# Altium integrated library ON Semi Digital Transistors (BRTs).IntLib: 470 symbols (part 8 of 11)
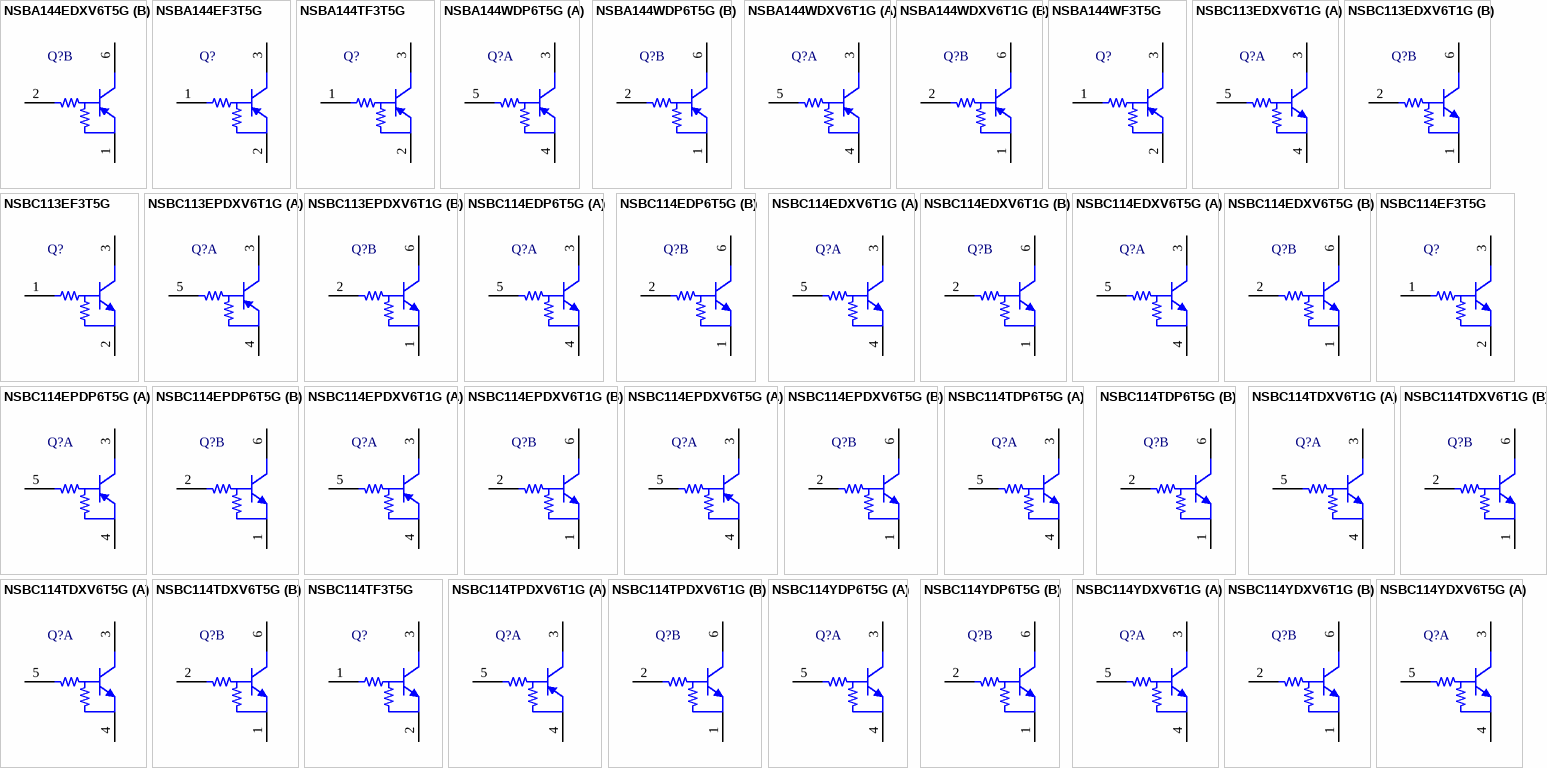
[diagram p23: symbols NSBA144EDXV6T5G to NSBC114YDXV6T5G]

## NSBC114TDXV6T5G
designator Q?
Dual NPN Bias Resistor Transistors, R1=10 kOhm, R2=infinity kOhm, NPN Transistor, 6-Pin SOT-563, Pb-Free, Tape and Reel; Manufacturer: On Semiconductor; PartNumber: NSBC114TDXV6T5G; hFE Min: 160; IC Continuous (A): 0.1; V(BR)CEO Min (V): 50; DatasheetVersion: Rev. 0; PackageVersion: Rev. F, 04/2005; PackageReference: SOT-563-6-463A-01; PackageDescription: 6-Pin Small Outline Transistor, Body 1.6 x 1.2 mm, Pitch 0.5 mm; Supplier 1: Digi-Key; Supplier Part Number 1: NSBC114TDXV6T5GOS-ND; Supplier 2: Mouser; Supplier Part Number 2: 863-NSBC114TDXV6T5G; Packing: Tape and Reel; Polarity: Dual NPN; RoHS: TRUE; Mounting Technology: Surface Mount; ComponentLink1Description: Manufacturer URL; ComponentLink1URL: http://www.onsemi.com/; ComponentLink2Description: Datasheet; ComponentLink2URL: http://www.onsemi.cn/pub_link/Collateral/DTC114TD-D.PDF; ComponentLink3Description: Package Specification; ComponentLink3URL: http://www.onsemi.cn/pub_link/Collateral/463A-01.PDF
footprint ONSC-SOT-563-6-463A-01_V (SOT23, 6-Leads, Body 1.6x1.2mm, Pitch 0.5mm)
part A pins: 3 C, 4 E, 5 B
part B pins: 1 E, 2 B, 6 C

## NSBC114TF3T5G
designator Q?
Digital Transistor (BRT), R1=10 kOhm, R2=infinity kOhm, NPN Transistor, 3-Pin SOT-1123, Pb-Free, Tape and Reel; Manufacturer: On Semiconductor; PartNumber: NSBC114TF3T5G; hFE Min: 160; IC Continuous (A): 0.1; V(BR)CEO Min (V): 50; DatasheetVersion: Rev. 1; PackageVersion: Rev. C, 11/2011; PackageReference: SOT-1123-3-524AA; PackageDescription: 3-Pin Small Outline Transistor, Body 0.8 x 0.6 mm, Pitch 0.375 mm; Supplier 1: Digi-Key; Supplier Part Number 1: NSBC114TF3T5G-ND; Supplier 2: Mouser; Supplier Part Number 2: 863-NSBC114TF3T5G; Packing: Tape and Reel; Polarity: NPN; RoHS: TRUE; Mounting Technology: Surface Mount; ComponentLink1Description: Manufacturer URL; ComponentLink1URL: http://www.onsemi.com/; ComponentLink2Description: Datasheet; ComponentLink2URL: http://www.onsemi.cn/pub_link/Collateral/DTC114T-D.PDF; ComponentLink3Description: Package Specification; ComponentLink3URL: http://www.onsemi.cn/pub_link/Collateral/524AA.PDF
footprint ONSC-SOT-1123-3-524AA_V (SOT223, 3-Leads, Body 0.8x0.6mm, Pitch 0.38mm)
pins: 1 B, 2 E, 3 C

## NSBC114TPDXV6T1G
designator Q?
Complementary Bias Resistor Transistors, R1=10 kOhm, R2=infinity kOhm, NPN and PNP Transistors, 6-Pin SOT-563, Pb-Free, Tape and Reel; Manufacturer: On Semiconductor; PartNumber: NSBC114TPDXV6T1G; hFE Min: 160; IC Continuous (A): 0.1; V(BR)CEO Min (V): 50; DatasheetVersion: Rev. 0; PackageVersion: Rev. F, 04/2005; PackageReference: SOT-563-6-463A-01; PackageDescription: 6-Pin Small Outline Transistor, Body 1.6 x 1.2 mm, Pitch 0.5 mm; Supplier 1: Mouser; Supplier Part Number 1: 863-NSBC114TPDXV6T1G; Packing: Tape and Reel; Polarity: Complementary; RoHS: TRUE; Mounting Technology: Surface Mount; ComponentLink1Description: Manufacturer URL; ComponentLink1URL: http://www.onsemi.com/; ComponentLink2Description: Datasheet; ComponentLink2URL: http://www.onsemi.cn/pub_link/Collateral/DTC114TP-D.PDF; ComponentLink3Description: Package Specification; ComponentLink3URL: http://www.onsemi.cn/pub_link/Collateral/463A-01.PDF
footprint ONSC-SOT-563-6-463A-01_V (SOT23, 6-Leads, Body 1.6x1.2mm, Pitch 0.5mm)
part A pins: 3 C, 4 E, 5 B
part B pins: 1 E, 2 B, 6 C

## NSBC114YDP6T5G
designator Q?
Dual NPN Bias Resistor Transistors, R1=10 kOhm, R2=47 kOhm, NPN Transistor, 6-Pin SOT-963, Pb-Free, Tape and Reel; Manufacturer: On Semiconductor; PartNumber: NSBC114YDP6T5G; hFE Min: 80; IC Continuous (A): 0.1; R1/R2 Typ: 0.21; V(BR)CEO Min (V): 50; DatasheetVersion: Rev. 0; PackageVersion: Rev. E, 02/2010; PackageReference: SOT-963-6-527AD-01; PackageDescription: 6-Pin Small Outline Transistor, Body 1 x 0.8 mm, Pitch 0.35 mm; Supplier 1: Digi-Key; Supplier Part Number 1: NSBC114YDP6T5G-ND; Supplier 2: Newark; Supplier Part Number 2: 46P8319; Supplier 3: Mouser; Supplier Part Number 3: 863-NSBC114YDP6T5G; Packing: Tape and Reel; Polarity: Dual NPN; RoHS: TRUE; Mounting Technology: Surface Mount; ComponentLink1Description: Manufacturer URL; ComponentLink1URL: http://www.onsemi.com/; ComponentLink2Description: Datasheet; ComponentLink2URL: http://www.onsemi.cn/pub_link/Collateral/DTC114YD-D.PDF; ComponentLink3Description: Package Specification; ComponentLink3URL: http://www.onsemi.cn/pub_link/Collateral/527AD.PDF
footprint ONSC-SOT-963-6-527AD-01_V (SOT23, 6-Leads, Body 1x0.8mm, Pitch 0.35mm)
part A pins: 3 C, 4 E, 5 B
part B pins: 1 E, 2 B, 6 C

## NSBC114YDXV6T1G
designator Q?
Dual NPN Bias Resistor Transistors, R1=10 kOhm, R2=47 kOhm, NPN Transistor, 6-Pin SOT-563, Pb-Free, Tape and Reel; Manufacturer: On Semiconductor; PartNumber: NSBC114YDXV6T1G; hFE Min: 80; IC Continuous (A): 0.1; R1/R2 Typ: 0.21; V(BR)CEO Min (V): 50; DatasheetVersion: Rev. 0; PackageVersion: Rev. F, 04/2005; PackageReference: SOT-563-6-463A-01; PackageDescription: 6-Pin Small Outline Transistor, Body 1.6 x 1.2 mm, Pitch 0.5 mm; Supplier 1: Digi-Key; Supplier Part Number 1: NSBC114YDXV6T1GOSTR-ND; Supplier 2: Digi-Key; Supplier Part Number 2: NSBC114YDXV6T1GOSCT-ND; Supplier 3: Digi-Key; Supplier Part Number 3: NSBC114YDXV6T1GOSDKR-ND; Supplier 4: Mouser; Supplier Part Number 4: 863-NSBC114YDXV6T1G; Packing: Tape and Reel; Polarity: Dual NPN; RoHS: TRUE; Mounting Technology: Surface Mount; ComponentLink1Description: Manufacturer URL; ComponentLink1URL: http://www.onsemi.com/; ComponentLink2Description: Datasheet; ComponentLink2URL: http://www.onsemi.cn/pub_link/Collateral/DTC114YD-D.PDF; ComponentLink3Description: Package Specification; ComponentLink3URL: http://www.onsemi.cn/pub_link/Collateral/463A-01.PDF
footprint ONSC-SOT-563-6-463A-01_V (SOT23, 6-Leads, Body 1.6x1.2mm, Pitch 0.5mm)
part A pins: 3 C, 4 E, 5 B
part B pins: 1 E, 2 B, 6 C

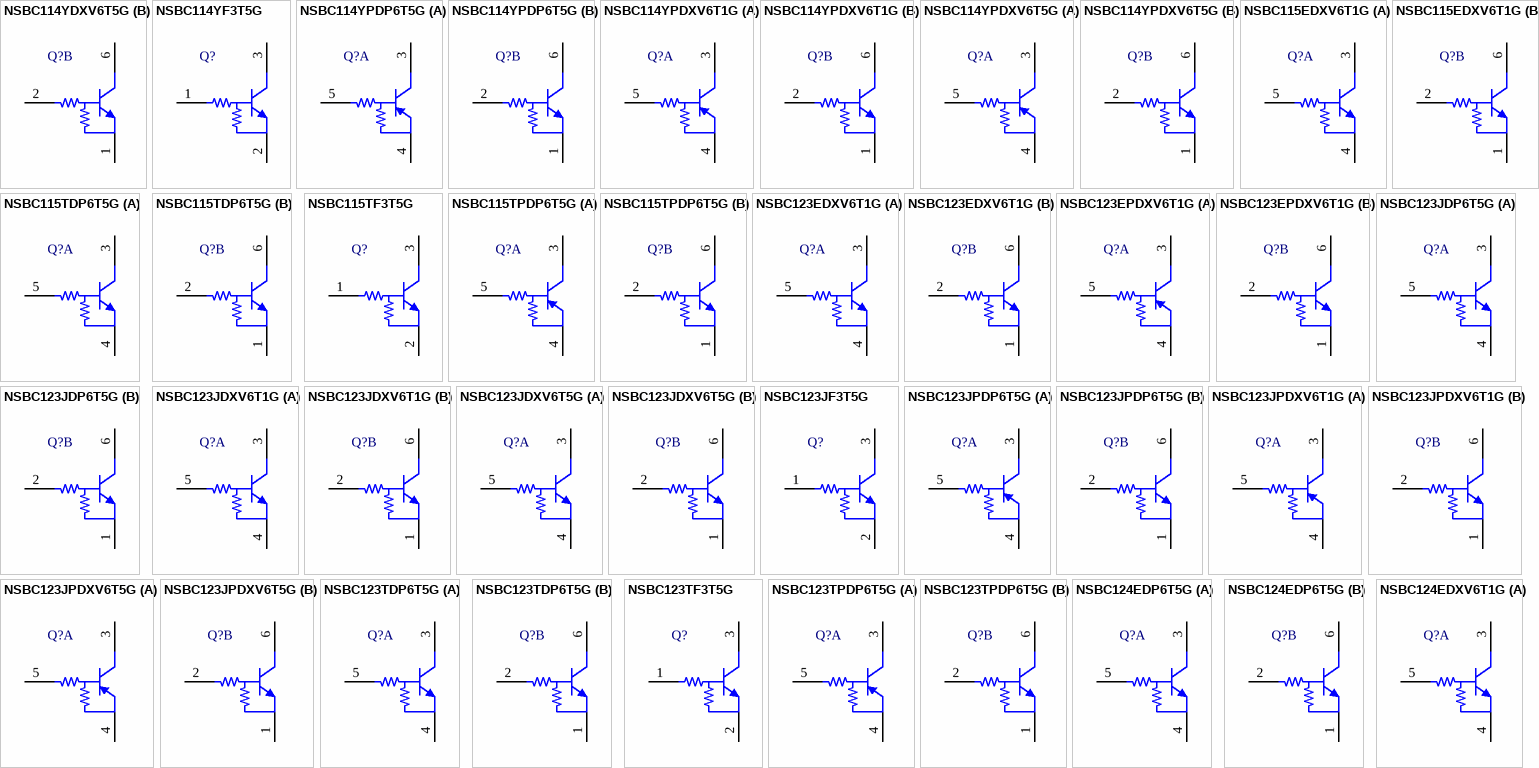
[diagram p10: symbols NSBC114YDXV6T5G to NSBC124EDXV6T1G]

## NSBC114YDXV6T5G
designator Q?
Dual NPN Bias Resistor Transistors, R1=10 kOhm, R2=47 kOhm, NPN Transistor, 6-Pin SOT-563, Pb-Free, Tape and Reel; Manufacturer: On Semiconductor; PartNumber: NSBC114YDXV6T5G; hFE Min: 80; IC Continuous (A): 0.1; R1/R2 Typ: 0.21; V(BR)CEO Min (V): 50; DatasheetVersion: Rev. 0; PackageVersion: Rev. F, 04/2005; PackageReference: SOT-563-6-463A-01; PackageDescription: 6-Pin Small Outline Transistor, Body 1.6 x 1.2 mm, Pitch 0.5 mm; Supplier 1: Digi-Key; Supplier Part Number 1: NSBC114YDXV6T5G-ND; Supplier 2: Mouser; Supplier Part Number 2: 863-NSBC114YDXV6T5G; Packing: Tape and Reel; Polarity: Dual NPN; RoHS: TRUE; Mounting Technology: Surface Mount; ComponentLink1Description: Manufacturer URL; ComponentLink1URL: http://www.onsemi.com/; ComponentLink2Description: Datasheet; ComponentLink2URL: http://www.onsemi.cn/pub_link/Collateral/DTC114YD-D.PDF; ComponentLink3Description: Package Specification; ComponentLink3URL: http://www.onsemi.cn/pub_link/Collateral/463A-01.PDF
footprint ONSC-SOT-563-6-463A-01_V (SOT23, 6-Leads, Body 1.6x1.2mm, Pitch 0.5mm)
part A pins: 3 C, 4 E, 5 B
part B pins: 1 E, 2 B, 6 C

## NSBC114YF3T5G
designator Q?
Digital Transistor (BRT), R1=10 kOhm, R2=47 kOhm, NPN Transistor, 3-Pin SOT-1123, Pb-Free, Tape and Reel; Manufacturer: On Semiconductor; PartNumber: NSBC114YF3T5G; hFE Min: 80; IC Continuous (A): 0.1; R1/R2 Typ: 0.21; V(BR)CEO Min (V): 50; DatasheetVersion: Rev. 3; PackageVersion: Rev. C, 11/2011; PackageReference: SOT-1123-3-524AA; PackageDescription: 3-Pin Small Outline Transistor, Body 0.8 x 0.6 mm, Pitch 0.375 mm; Supplier 1: Digi-Key; Supplier Part Number 1: NSBC114YF3T5G-ND; Supplier 2: Mouser; Supplier Part Number 2: 863-NSBC114YF3T5G; Packing: Tape and Reel; Polarity: NPN; RoHS: TRUE; Mounting Technology: Surface Mount; ComponentLink1Description: Manufacturer URL; ComponentLink1URL: http://www.onsemi.com/; ComponentLink2Description: Datasheet; ComponentLink2URL: http://www.onsemi.cn/pub_link/Collateral/DTC114Y-D.PDF; ComponentLink3Description: Package Specification; ComponentLink3URL: http://www.onsemi.cn/pub_link/Collateral/524AA.PDF
footprint ONSC-SOT-1123-3-524AA_V (SOT223, 3-Leads, Body 0.8x0.6mm, Pitch 0.38mm)
pins: 1 B, 2 E, 3 C

## NSBC114YPDP6T5G
designator Q?
Complementary Bias Resistor Transistors, R1=10 kOhm, R2=47 kOhm, NPN and PNP Transistors, 6-Pin SOT-963, Pb-Free, Tape and Reel; Manufacturer: On Semiconductor; PartNumber: NSBC114YPDP6T5G; hFE Min: 80; IC Continuous (A): 0.1; R1/R2 Typ: 0.21; V(BR)CEO Min (V): 50; DatasheetVersion: Rev. 0; PackageVersion: Rev. E, 02/2010; PackageReference: SOT-963-6-527AD-01; PackageDescription: 6-Pin Small Outline Transistor, Body 1 x 0.8 mm, Pitch 0.35 mm; Supplier 1: Digi-Key; Supplier Part Number 1: NSBC114YPDP6T5G-ND; Supplier 2: Mouser; Supplier Part Number 2: 863-NSBC114YPDP6T5G; Packing: Tape and Reel; Polarity: Complementary; RoHS: TRUE; Mounting Technology: Surface Mount; ComponentLink1Description: Manufacturer URL; ComponentLink1URL: http://www.onsemi.com/; ComponentLink2Description: Datasheet; ComponentLink2URL: http://www.onsemi.cn/pub_link/Collateral/DTC114YP-D.PDF; ComponentLink3Description: Package Specification; ComponentLink3URL: http://www.onsemi.cn/pub_link/Collateral/527AD.PDF
footprint ONSC-SOT-963-6-527AD-01_V (SOT23, 6-Leads, Body 1x0.8mm, Pitch 0.35mm)
part A pins: 3 C, 4 E, 5 B
part B pins: 1 E, 2 B, 6 C

## NSBC114YPDXV6T1G
designator Q?
Complementary Bias Resistor Transistors, R1=10 kOhm, R2=47 kOhm, NPN and PNP Transistors, 6-Pin SOT-563, Pb-Free, Tape and Reel; Manufacturer: On Semiconductor; PartNumber: NSBC114YPDXV6T1G; hFE Min: 80; IC Continuous (A): 0.1; R1/R2 Typ: 0.21; V(BR)CEO Min (V): 50; DatasheetVersion: Rev. 0; PackageVersion: Rev. F, 04/2005; PackageReference: SOT-563-6-463A-01; PackageDescription: 6-Pin Small Outline Transistor, Body 1.6 x 1.2 mm, Pitch 0.5 mm; Supplier 1: Digi-Key; Supplier Part Number 1: NSBC114YPDXV6T1GOSTR-ND; Supplier 2: Digi-Key; Supplier Part Number 2: NSBC114YPDXV6T1GOSCT-ND; Supplier 3: Digi-Key; Supplier Part Number 3: NSBC114YPDXV6T1GOSDKR-ND; Supplier 4: Farnell; Supplier Part Number 4: 2317634; Supplier 5: Newark; Supplier Part Number 5: 90W9284; Supplier 6: Newark; Supplier Part Number 6: 09R9608; Supplier 7: Newark; Supplier Part Number 7: 42K2329; Supplier 8: Mouser; Supplier Part Number 8: 863-NSBC114YPDXV6T1G; Packing: Tape and Reel; Polarity: Complementary; RoHS: TRUE; Mounting Technology: Surface Mount; ComponentLink1Description: Manufacturer URL; ComponentLink1URL: http://www.onsemi.com/; ComponentLink2Description: Datasheet; ComponentLink2URL: http://www.onsemi.cn/pub_link/Collateral/DTC114YP-D.PDF; ComponentLink3Description: Package Specification; ComponentLink3URL: http://www.onsemi.cn/pub_link/Collateral/463A-01.PDF
footprint ONSC-SOT-563-6-463A-01_V (SOT23, 6-Leads, Body 1.6x1.2mm, Pitch 0.5mm)
part A pins: 3 C, 4 E, 5 B
part B pins: 1 E, 2 B, 6 C

## NSBC114YPDXV6T5G
designator Q?
Complementary Bias Resistor Transistors, R1=10 kOhm, R2=47 kOhm, NPN and PNP Transistors, 6-Pin SOT-563, Pb-Free, Tape and Reel; Manufacturer: On Semiconductor; PartNumber: NSBC114YPDXV6T5G; hFE Min: 80; IC Continuous (A): 0.1; R1/R2 Typ: 0.21; V(BR)CEO Min (V): 50; DatasheetVersion: Rev. 0; PackageVersion: Rev. F, 04/2005; PackageReference: SOT-563-6-463A-01; PackageDescription: 6-Pin Small Outline Transistor, Body 1.6 x 1.2 mm, Pitch 0.5 mm; Supplier 1: Digi-Key; Supplier Part Number 1: NSBC114YPDXV6T5G-ND; Supplier 2: Mouser; Supplier Part Number 2: 863-NSBC114YPDXV6T5G; Packing: Tape and Reel; Polarity: Complementary; RoHS: TRUE; Mounting Technology: Surface Mount; ComponentLink1Description: Manufacturer URL; ComponentLink1URL: http://www.onsemi.com/; ComponentLink2Description: Datasheet; ComponentLink2URL: http://www.onsemi.cn/pub_link/Collateral/DTC114YP-D.PDF; ComponentLink3Description: Package Specification; ComponentLink3URL: http://www.onsemi.cn/pub_link/Collateral/463A-01.PDF
footprint ONSC-SOT-563-6-463A-01_V (SOT23, 6-Leads, Body 1.6x1.2mm, Pitch 0.5mm)
part A pins: 3 C, 4 E, 5 B
part B pins: 1 E, 2 B, 6 C

## NSBC115EDXV6T1G
designator Q?
Dual NPN Bias Resistor Transistors, R1=100 kOhm, R2=100 kOhm, NPN Transistor, 6-Pin SOT-563, Pb-Free, Tape and Reel; Manufacturer: On Semiconductor; PartNumber: NSBC115EDXV6T1G; hFE Min: 80; IC Continuous (A): 0.1; R1/R2 Typ: 1; V(BR)CEO Min (V): 50; DatasheetVersion: Rev. 0; PackageVersion: Rev. F, 04/2005; PackageReference: SOT-563-6-463A-01; PackageDescription: 6-Pin Small Outline Transistor, Body 1.6 x 1.2 mm, Pitch 0.5 mm; Supplier 1: Digi-Key; Supplier Part Number 1: NSBC115EDXV6T1GOSTR-ND; Supplier 2: Digi-Key; Supplier Part Number 2: NSBC115EDXV6T1GOSCT-ND; Supplier 3: Newark; Supplier Part Number 3: 42K2331; Supplier 4: Mouser; Supplier Part Number 4: 863-NSBC115EDXV6T1G; Packing: Tape and Reel; Polarity: Dual NPN; RoHS: TRUE; Mounting Technology: Surface Mount; ComponentLink1Description: Manufacturer URL; ComponentLink1URL: http://www.onsemi.com/; ComponentLink2Description: Datasheet; ComponentLink2URL: http://www.onsemi.cn/pub_link/Collateral/DTC115ED-D.PDF; ComponentLink3Description: Package Specification; ComponentLink3URL: http://www.onsemi.cn/pub_link/Collateral/463A-01.PDF
footprint ONSC-SOT-563-6-463A-01_V (SOT23, 6-Leads, Body 1.6x1.2mm, Pitch 0.5mm)
part A pins: 3 C, 4 E, 5 B
part B pins: 1 E, 2 B, 6 C

## NSBC115TDP6T5G
designator Q?
Dual NPN Bias Resistor Transistors, R1=100 kOhm, R2=infinity kOhm, NPN Transistor, 6-Pin SOT-963, Pb-Free, Tape and Reel; Manufacturer: On Semiconductor; PartNumber: NSBC115TDP6T5G; hFE Min: 160; IC Continuous (A): 0.1; V(BR)CEO Min (V): 50; DatasheetVersion: Rev. 1; PackageVersion: Rev. E, 02/2010; PackageReference: SOT-963-6-527AD-01; PackageDescription: 6-Pin Small Outline Transistor, Body 1 x 0.8 mm, Pitch 0.35 mm; Supplier 1: Digi-Key; Supplier Part Number 1: NSBC115TDP6T5G-ND; Supplier 2: Mouser; Supplier Part Number 2: 863-NSBC115TDP6T5G; Packing: Tape and Reel; Polarity: Dual NPN; RoHS: TRUE; Mounting Technology: Surface Mount; ComponentLink1Description: Manufacturer URL; ComponentLink1URL: http://www.onsemi.com/; ComponentLink2Description: Datasheet; ComponentLink2URL: http://www.onsemi.cn/pub_link/Collateral/DTC115TD-D.PDF; ComponentLink3Description: Package Specification; ComponentLink3URL: http://www.onsemi.cn/pub_link/Collateral/527AD.PDF
footprint ONSC-SOT-963-6-527AD-01_V (SOT23, 6-Leads, Body 1x0.8mm, Pitch 0.35mm)
part A pins: 3 C, 4 E, 5 B
part B pins: 1 E, 2 B, 6 C

## NSBC115TF3T5G
designator Q?
Digital Transistor (BRT), R1=100 kOhm, R2=infinity kOhm, NPN Transistor, 3-Pin SOT-1123, Pb-Free, Tape and Reel; Manufacturer: On Semiconductor; PartNumber: NSBC115TF3T5G; hFE Min: 160; IC Continuous (A): 0.1; V(BR)CEO Min (V): 50; DatasheetVersion: Rev. 1; PackageVersion: Rev. C, 11/2011; PackageReference: SOT-1123-3-524AA; PackageDescription: 3-Pin Small Outline Transistor, Body 0.8 x 0.6 mm, Pitch 0.375 mm; Supplier 1: Digi-Key; Supplier Part Number 1: NSBC115TF3T5G-ND; Supplier 2: Mouser; Supplier Part Number 2: 863-NSBC115TF3T5G; Packing: Tape and Reel; Polarity: NPN; RoHS: TRUE; Mounting Technology: Surface Mount; ComponentLink1Description: Manufacturer URL; ComponentLink1URL: http://www.onsemi.com/; ComponentLink2Description: Datasheet; ComponentLink2URL: http://www.onsemi.cn/pub_link/Collateral/DTC115T-D.PDF; ComponentLink3Description: Package Specification; ComponentLink3URL: http://www.onsemi.cn/pub_link/Collateral/524AA.PDF
footprint ONSC-SOT-1123-3-524AA_V (SOT223, 3-Leads, Body 0.8x0.6mm, Pitch 0.38mm)
pins: 1 B, 2 E, 3 C

## NSBC115TPDP6T5G
designator Q?
Complementary Bias Resistor Transistors, R1=100 kOhm, R2=infinity kOhm, NPN and PNP Transistors, 6-Pin SOT-963, Pb-Free, Tape and Reel; Manufacturer: On Semiconductor; PartNumber: NSBC115TPDP6T5G; hFE Min: 160; IC Continuous (A): 0.1; V(BR)CEO Min (V): 50; DatasheetVersion: Rev. 0; PackageVersion: Rev. E, 02/2010; PackageReference: SOT-963-6-527AD-01; PackageDescription: 6-Pin Small Outline Transistor, Body 1 x 0.8 mm, Pitch 0.35 mm; Supplier 1: Digi-Key; Supplier Part Number 1: NSBC115TPDP6T5G-ND; Supplier 2: Mouser; Supplier Part Number 2: 863-NSBC115TPDP6T5G; Packing: Tape and Reel; Polarity: Complementary; RoHS: TRUE; Mounting Technology: Surface Mount; ComponentLink1Description: Manufacturer URL; ComponentLink1URL: http://www.onsemi.com/; ComponentLink2Description: Datasheet; ComponentLink2URL: http://www.onsemi.cn/pub_link/Collateral/DTC115TP-D.PDF; ComponentLink3Description: Package Specification; ComponentLink3URL: http://www.onsemi.cn/pub_link/Collateral/527AD.PDF
footprint ONSC-SOT-963-6-527AD-01_V (SOT23, 6-Leads, Body 1x0.8mm, Pitch 0.35mm)
part A pins: 3 C, 4 E, 5 B
part B pins: 1 E, 2 B, 6 C

## NSBC123EDXV6T1G
designator Q?
Dual NPN Bias Resistor Transistors, R1=2.2 kOhm, R2=2.2 kOhm, NPN Transistor, 6-Pin SOT-563, Pb-Free, Tape and Reel; Manufacturer: On Semiconductor; PartNumber: NSBC123EDXV6T1G; hFE Min: 8; IC Continuous (A): 0.1; R1/R2 Typ: 1; V(BR)CEO Min (V): 50; DatasheetVersion: Rev. 0; PackageVersion: Rev. F, 04/2005; PackageReference: SOT-563-6-463A-01; PackageDescription: 6-Pin Small Outline Transistor, Body 1.6 x 1.2 mm, Pitch 0.5 mm; Supplier 1: Digi-Key; Supplier Part Number 1: NSBC123EDXV6T1GOS-ND; Supplier 2: Mouser; Supplier Part Number 2: 863-NSBC123EDXV6T1G; Packing: Tape and Reel; Polarity: Dual NPN; RoHS: TRUE; Mounting Technology: Surface Mount; ComponentLink1Description: Manufacturer URL; ComponentLink1URL: http://www.onsemi.com/; ComponentLink2Description: Datasheet; ComponentLink2URL: http://www.onsemi.cn/pub_link/Collateral/DTC123ED-D.PDF; ComponentLink3Description: Package Specification; ComponentLink3URL: http://www.onsemi.cn/pub_link/Collateral/463A-01.PDF
footprint ONSC-SOT-563-6-463A-01_V (SOT23, 6-Leads, Body 1.6x1.2mm, Pitch 0.5mm)
part A pins: 3 C, 4 E, 5 B
part B pins: 1 E, 2 B, 6 C

## NSBC123EPDXV6T1G
designator Q?
Complementary Bias Resistor Transistors, R1=2.2 kOhm, R2=2.2 kOhm, NPN and PNP Transistors, 6-Pin SOT-563, Pb-Free, Tape and Reel; Manufacturer: On Semiconductor; PartNumber: NSBC123EPDXV6T1G; hFE Min: 8; IC Continuous (A): 0.1; R1/R2 Typ: 1; V(BR)CEO Min (V): 50; DatasheetVersion: Rev. 0; PackageVersion: Rev. F, 04/2005; PackageReference: SOT-563-6-463A-01; PackageDescription: 6-Pin Small Outline Transistor, Body 1.6 x 1.2 mm, Pitch 0.5 mm; Supplier 1: Digi-Key; Supplier Part Number 1: NSBC123EPDXV6T1GOS-ND; Supplier 2: Mouser; Supplier Part Number 2: N/A; Packing: Tape and Reel; Polarity: Complementary; RoHS: TRUE; Mounting Technology: Surface Mount; ComponentLink1Description: Manufacturer URL; ComponentLink1URL: http://www.onsemi.com/; ComponentLink2Description: Datasheet; ComponentLink2URL: http://www.onsemi.cn/pub_link/Collateral/DTC123EP-D.PDF; ComponentLink3Description: Package Specification; ComponentLink3URL: http://www.onsemi.cn/pub_link/Collateral/463A-01.PDF
footprint ONSC-SOT-563-6-463A-01_V (SOT23, 6-Leads, Body 1.6x1.2mm, Pitch 0.5mm)
part A pins: 3 C, 4 E, 5 B
part B pins: 1 E, 2 B, 6 C

## NSBC123JDP6T5G
designator Q?
Dual NPN Bias Resistor Transistors, R1=2.2 kOhm, R2=47 kOhm, NPN Transistors, 6-Pin SOT-963, Pb-Free, Tape and Reel; Manufacturer: On Semiconductor; PartNumber: NSBC123JDP6T5G; hFE Min: 80; IC Continuous (A): 0.1; R1/R2 Typ: 0.047; V(BR)CEO Min (V): 50; DatasheetVersion: Rev. 0; PackageVersion: Rev. E, 02/2010; PackageReference: SOT-963-6-527AD-01; PackageDescription: 6-Pin Small Outline Transistor, Body 1 x 0.8 mm, Pitch 0.35 mm; Supplier 1: Digi-Key; Supplier Part Number 1: NSBC123JDP6T5G-ND; Supplier 2: Mouser; Supplier Part Number 2: 863-NSBC123JDP6T5G; Packing: Tape and Reel; Polarity: Dual NPN; RoHS: TRUE; Mounting Technology: Surface Mount; ComponentLink1Description: Manufacturer URL; ComponentLink1URL: http://www.onsemi.com/; ComponentLink2Description: Datasheet; ComponentLink2URL: http://www.onsemi.cn/pub_link/Collateral/DTC123JD-D.PDF; ComponentLink3Description: Package Specification; ComponentLink3URL: http://www.onsemi.cn/pub_link/Collateral/527AD.PDF
footprint ONSC-SOT-963-6-527AD-01_V (SOT23, 6-Leads, Body 1x0.8mm, Pitch 0.35mm)
part A pins: 3 C, 4 E, 5 B
part B pins: 1 E, 2 B, 6 C

## NSBC123JDXV6T1G
designator Q?
Dual NPN Bias Resistor Transistors, R1=2.2 kOhm, R2=47 kOhm, NPN Transistors, 6-Pin SOT-563, Pb-Free, Tape and Reel; Manufacturer: On Semiconductor; PartNumber: NSBC123JDXV6T1G; hFE Min: 80; IC Continuous (A): 0.1; R1/R2 Typ: 0.047; V(BR)CEO Min (V): 50; DatasheetVersion: Rev. 0; PackageVersion: Rev. F, 04/2005; PackageReference: SOT-563-6-463A-01; PackageDescription: 6-Pin Small Outline Transistor, Body 1.6 x 1.2 mm, Pitch 0.5 mm; Supplier 1: Digi-Key; Supplier Part Number 1: NSBC123JDXV6T1GOSCT-ND; Supplier 2: Mouser; Supplier Part Number 2: 863-NSBC123JDXV6T1G; Packing: Tape and Reel; Polarity: Dual NPN; RoHS: TRUE; Mounting Technology: Surface Mount; ComponentLink1Description: Manufacturer URL; ComponentLink1URL: http://www.onsemi.com/; ComponentLink2Description: Datasheet; ComponentLink2URL: http://www.onsemi.cn/pub_link/Collateral/DTC123JD-D.PDF; ComponentLink3Description: Package Specification; ComponentLink3URL: http://www.onsemi.cn/pub_link/Collateral/463A-01.PDF
footprint ONSC-SOT-563-6-463A-01_V (SOT23, 6-Leads, Body 1.6x1.2mm, Pitch 0.5mm)
part A pins: 3 C, 4 E, 5 B
part B pins: 1 E, 2 B, 6 C

## NSBC123JDXV6T5G
designator Q?
Dual NPN Bias Resistor Transistors, R1=2.2 kOhm, R2=47 kOhm, NPN Transistors, 6-Pin SOT-563, Pb-Free, Tape and Reel; Manufacturer: On Semiconductor; PartNumber: NSBC123JDXV6T5G; hFE Min: 80; IC Continuous (A): 0.1; R1/R2 Typ: 0.047; V(BR)CEO Min (V): 50; DatasheetVersion: Rev. 0; PackageVersion: Rev. F, 04/2005; PackageReference: SOT-563-6-463A-01; PackageDescription: 6-Pin Small Outline Transistor, Body 1.6 x 1.2 mm, Pitch 0.5 mm; Supplier 1: Mouser; Supplier Part Number 1: 863-NSBC123JDXV6T5G; Packing: Tape and Reel; Polarity: Dual NPN; RoHS: TRUE; Mounting Technology: Surface Mount; ComponentLink1Description: Manufacturer URL; ComponentLink1URL: http://www.onsemi.com/; ComponentLink2Description: Datasheet; ComponentLink2URL: http://www.onsemi.cn/pub_link/Collateral/DTC123JD-D.PDF; ComponentLink3Description: Package Specification; ComponentLink3URL: http://www.onsemi.cn/pub_link/Collateral/463A-01.PDF
footprint ONSC-SOT-563-6-463A-01_V (SOT23, 6-Leads, Body 1.6x1.2mm, Pitch 0.5mm)
part A pins: 3 C, 4 E, 5 B
part B pins: 1 E, 2 B, 6 C

## NSBC123JF3T5G
designator Q?
Digital Transistor (BRT), R1=2.2 kOhm, R2=47 kOhm, NPN Transistor, 3-Pin SOT-1123, Pb-Free, Tape and Reel; Manufacturer: On Semiconductor; PartNumber: NSBC123JF3T5G; hFE Min: 80; IC Continuous (A): 0.1; R1/R2 Typ: 0.047; V(BR)CEO Min (V): 50; DatasheetVersion: Rev. 1; PackageVersion: Rev. C, 11/2011; PackageReference: SOT-1123-3-524AA; PackageDescription: 3-Pin Small Outline Transistor, Body 0.8 x 0.6 mm, Pitch 0.375 mm; Supplier 1: Digi-Key; Supplier Part Number 1: NSBC123JF3T5G-ND; Supplier 2: Mouser; Supplier Part Number 2: 863-NSBC123JF3T5G; Packing: Tape and Reel; Polarity: NPN; RoHS: TRUE; Mounting Technology: Surface Mount; ComponentLink1Description: Manufacturer URL; ComponentLink1URL: http://www.onsemi.com/; ComponentLink2Description: Datasheet; ComponentLink2URL: http://www.onsemi.cn/pub_link/Collateral/DTC123J-D.PDF; ComponentLink3Description: Package Specification; ComponentLink3URL: http://www.onsemi.cn/pub_link/Collateral/524AA.PDF
footprint ONSC-SOT-1123-3-524AA_V (SOT223, 3-Leads, Body 0.8x0.6mm, Pitch 0.38mm)
pins: 1 B, 2 E, 3 C

## NSBC123JPDP6T5G
designator Q?
Complementary Bias Resistor Transistors, R1=2.2 kOhm, R2=47 kOhm, NPN and PNP Transistors, 6-Pin SOT-963, Pb-Free, Tape and Reel; Manufacturer: On Semiconductor; PartNumber: NSBC123JPDP6T5G; hFE Min: 80; IC Continuous (A): 0.1; R1/R2 Typ: 0.047; V(BR)CEO Min (V): 50; DatasheetVersion: Rev. 0; PackageVersion: Rev. E, 02/2010; PackageReference: SOT-963-6-527AD-01; PackageDescription: 6-Pin Small Outline Transistor, Body 1 x 0.8 mm, Pitch 0.35 mm; Supplier 1: Digi-Key; Supplier Part Number 1: NSBC123JPDP6T5G-ND; Supplier 2: Newark; Supplier Part Number 2: 34R4319; Supplier 3: Mouser; Supplier Part Number 3: 863-NSBC123JPDP6T5G; Packing: Tape and Reel; Polarity: Complementary; RoHS: TRUE; Mounting Technology: Surface Mount; ComponentLink1Description: Manufacturer URL; ComponentLink1URL: http://www.onsemi.com/; ComponentLink2Description: Datasheet; ComponentLink2URL: http://www.onsemi.cn/pub_link/Collateral/DTC123JP-D.PDF; ComponentLink3Description: Package Specification; ComponentLink3URL: http://www.onsemi.cn/pub_link/Collateral/527AD.PDF
footprint ONSC-SOT-963-6-527AD-01_V (SOT23, 6-Leads, Body 1x0.8mm, Pitch 0.35mm)
part A pins: 3 C, 4 E, 5 B
part B pins: 1 E, 2 B, 6 C

## NSBC123JPDXV6T1G
designator Q?
Complementary Bias Resistor Transistors, R1=2.2 kOhm, R2=47 kOhm, NPN and PNP Transistors, 6-Pin SOT-563, Pb-Free, Tape and Reel; Manufacturer: On Semiconductor; PartNumber: NSBC123JPDXV6T1G; hFE Min: 80; IC Continuous (A): 0.1; R1/R2 Typ: 0.047; V(BR)CEO Min (V): 50; DatasheetVersion: Rev. 0; PackageVersion: Rev. F, 04/2005; PackageReference: SOT-563-6-463A-01; PackageDescription: 6-Pin Small Outline Transistor, Body 1.6 x 1.2 mm, Pitch 0.5 mm; Supplier 1: Digi-Key; Supplier Part Number 1: NSBC123JPDXV6T1GOSTR-ND; Supplier 2: Digi-Key; Supplier Part Number 2: NSBC123JPDXV6T1GOSCT-ND; Supplier 3: Digi-Key; Supplier Part Number 3: NSBC123JPDXV6T1GOSDKR-ND; Supplier 4: Mouser; Supplier Part Number 4: 863-NSBC123JPDXV6T1G; Packing: Tape and Reel; Polarity: Complementary; RoHS: TRUE; Mounting Technology: Surface Mount; ComponentLink1Description: Manufacturer URL; ComponentLink1URL: http://www.onsemi.com/; ComponentLink2Description: Datasheet; ComponentLink2URL: http://www.onsemi.cn/pub_link/Collateral/DTC123JP-D.PDF; ComponentLink3Description: Package Specification; ComponentLink3URL: http://www.onsemi.cn/pub_link/Collateral/463A-01.PDF
footprint ONSC-SOT-563-6-463A-01_V (SOT23, 6-Leads, Body 1.6x1.2mm, Pitch 0.5mm)
part A pins: 3 C, 4 E, 5 B
part B pins: 1 E, 2 B, 6 C

## NSBC123JPDXV6T5G
designator Q?
Complementary Bias Resistor Transistors, R1=2.2 kOhm, R2=47 kOhm, NPN and PNP Transistors, 6-Pin SOT-563, Pb-Free, Tape and Reel; Manufacturer: On Semiconductor; PartNumber: NSBC123JPDXV6T5G; hFE Min: 80; IC Continuous (A): 0.1; R1/R2 Typ: 0.047; V(BR)CEO Min (V): 50; DatasheetVersion: Rev. 0; PackageVersion: Rev. F, 04/2005; PackageReference: SOT-563-6-463A-01; PackageDescription: 6-Pin Small Outline Transistor, Body 1.6 x 1.2 mm, Pitch 0.5 mm; Supplier 1: Digi-Key; Supplier Part Number 1: NSBC123JPDXV6T5GOSTR-ND; Supplier 2: Digi-Key; Supplier Part Number 2: NSBC123JPDXV6T5GOSCT-ND; Supplier 3: Mouser; Supplier Part Number 3: 863-NSBC123JPDXV6T5G; Packing: Tape and Reel; Polarity: Complementary; RoHS: TRUE; Mounting Technology: Surface Mount; ComponentLink1Description: Manufacturer URL; ComponentLink1URL: http://www.onsemi.com/; ComponentLink2Description: Datasheet; ComponentLink2URL: http://www.onsemi.cn/pub_link/Collateral/DTC123JP-D.PDF; ComponentLink3Description: Package Specification; ComponentLink3URL: http://www.onsemi.cn/pub_link/Collateral/463A-01.PDF
footprint ONSC-SOT-563-6-463A-01_V (SOT23, 6-Leads, Body 1.6x1.2mm, Pitch 0.5mm)
part A pins: 3 C, 4 E, 5 B
part B pins: 1 E, 2 B, 6 C

## NSBC123TDP6T5G
designator Q?
Dual NPN Bias Resistor Transistors, R1=2.2 kOhm, R2=infinity kOhm, NPN Transistor, 6-Pin SOT-963, Pb-Free, Tape and Reel; Manufacturer: On Semiconductor; PartNumber: NSBC123TDP6T5G; hFE Min: 160; IC Continuous (A): 0.1; V(BR)CEO Min (V): 50; DatasheetVersion: Rev. 0; PackageVersion: Rev. E, 02/2010; PackageReference: SOT-963-6-527AD-01; PackageDescription: 6-Pin Small Outline Transistor, Body 1 x 0.8 mm, Pitch 0.35 mm; Supplier 1: Digi-Key; Supplier Part Number 1: NSBC123TDP6T5G-ND; Supplier 2: Mouser; Supplier Part Number 2: 863-NSBC123TDP6T5G; Packing: Tape and Reel; Polarity: Dual NPN; RoHS: TRUE; Mounting Technology: Surface Mount; ComponentLink1Description: Manufacturer URL; ComponentLink1URL: http://www.onsemi.com/; ComponentLink2Description: Datasheet; ComponentLink2URL: http://www.onsemi.cn/pub_link/Collateral/DTC123TD-D.PDF; ComponentLink3Description: Package Specification; ComponentLink3URL: http://www.onsemi.cn/pub_link/Collateral/527AD.PDF
footprint ONSC-SOT-963-6-527AD-01_V (SOT23, 6-Leads, Body 1x0.8mm, Pitch 0.35mm)
part A pins: 3 C, 4 E, 5 B
part B pins: 1 E, 2 B, 6 C

## NSBC123TF3T5G
designator Q?
Digital Transistor (BRT), R1=2.2 kOhm, R2=infinity kOhm, NPN Transistor, 3-Pin SOT-1123, Pb-Free, Tape and Reel; Manufacturer: On Semiconductor; PartNumber: NSBC123TF3T5G; hFE Min: 160; IC Continuous (A): 0.1; V(BR)CEO Min (V): 50; DatasheetVersion: Rev. 1; PackageVersion: Rev. C, 11/2011; PackageReference: SOT-1123-3-524AA; PackageDescription: 3-Pin Small Outline Transistor, Body 0.8 x 0.6 mm, Pitch 0.375 mm; Supplier 1: Digi-Key; Supplier Part Number 1: NSBC123TF3T5G-ND; Supplier 2: Mouser; Supplier Part Number 2: 863-NSBC123TF3T5G; Packing: Tape and Reel; Polarity: NPN; RoHS: TRUE; Mounting Technology: Surface Mount; ComponentLink1Description: Manufacturer URL; ComponentLink1URL: http://www.onsemi.com/; ComponentLink2Description: Datasheet; ComponentLink2URL: http://www.onsemi.cn/pub_link/Collateral/DTC123T-D.PDF; ComponentLink3Description: Package Specification; ComponentLink3URL: http://www.onsemi.cn/pub_link/Collateral/524AA.PDF
footprint ONSC-SOT-1123-3-524AA_V (SOT223, 3-Leads, Body 0.8x0.6mm, Pitch 0.38mm)
pins: 1 B, 2 E, 3 C

## NSBC123TPDP6T5G
designator Q?
Complementary Bias Resistor Transistors, R1=2.2 kOhm, R2=infinity kOhm, NPN and PNP Transistors, 6-Pin SOT-963, Pb-Free, Tape and Reel; Manufacturer: On Semiconductor; PartNumber: NSBC123TPDP6T5G; hFE Min: 160; IC Continuous (A): 0.1; V(BR)CEO Min (V): 50; DatasheetVersion: Rev. 0; PackageVersion: Rev. E, 02/2010; PackageReference: SOT-963-6-527AD-01; PackageDescription: 6-Pin Small Outline Transistor, Body 1 x 0.8 mm, Pitch 0.35 mm; Supplier 1: Mouser; Supplier Part Number 1: 863-NSBC123TPDP6T5G; Packing: Tape and Reel; Polarity: Complementary; RoHS: TRUE; Mounting Technology: Surface Mount; ComponentLink1Description: Manufacturer URL; ComponentLink1URL: http://www.onsemi.com/; ComponentLink2Description: Datasheet; ComponentLink2URL: http://www.onsemi.com/pub_link/Collateral/DTC123TP-D.PDF; ComponentLink3Description: Package Specification; ComponentLink3URL: http://www.onsemi.cn/pub_link/Collateral/527AD.PDF
footprint ONSC-SOT-963-6-527AD-01_V (SOT23, 6-Leads, Body 1x0.8mm, Pitch 0.35mm)
part A pins: 3 C, 4 E, 5 B
part B pins: 1 E, 2 B, 6 C

## NSBC124EDP6T5G
designator Q?
Dual NPN Bias Resistor Transistors, R1=22 kOhm, R2=22 kOhm, NPN Transistor, 6-Pin SOT-963, Pb-Free, Tape and Reel; Manufacturer: On Semiconductor; PartNumber: NSBC124EDP6T5G; hFE Min: 60; IC Continuous (A): 0.1; R1/R2 Typ: 1; V(BR)CEO Min (V): 50; DatasheetVersion: Rev. 0; PackageVersion: Rev. E, 02/2010; PackageReference: SOT-963-6-527AD-01; PackageDescription: 6-Pin Small Outline Transistor, Body 1 x 0.8 mm, Pitch 0.35 mm; Supplier 1: Digi-Key; Supplier Part Number 1: NSBC124EDP6T5G-ND; Supplier 2: Mouser; Supplier Part Number 2: 863-NSBC124EDP6T5G; Packing: Tape and Reel; Polarity: Dual NPN; RoHS: TRUE; Mounting Technology: Surface Mount; ComponentLink1Description: Manufacturer URL; ComponentLink1URL: http://www.onsemi.com/; ComponentLink2Description: Datasheet; ComponentLink2URL: http://www.onsemi.cn/pub_link/Collateral/DTC124ED-D.PDF; ComponentLink3Description: Package Specification; ComponentLink3URL: http://www.onsemi.cn/pub_link/Collateral/527AD.PDF
footprint ONSC-SOT-963-6-527AD-01_V (SOT23, 6-Leads, Body 1x0.8mm, Pitch 0.35mm)
part A pins: 3 C, 4 E, 5 B
part B pins: 1 E, 2 B, 6 C

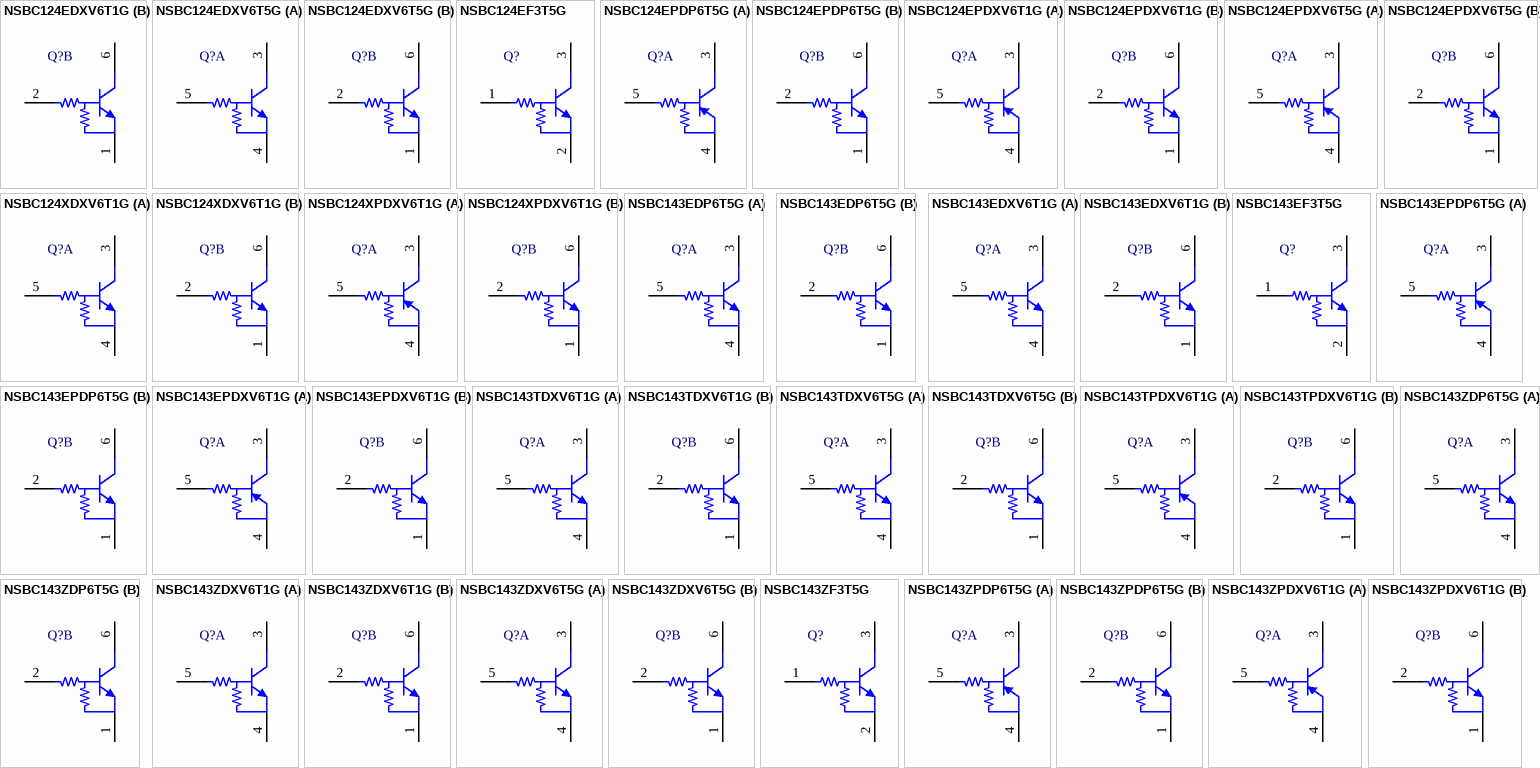
[diagram p11: symbols NSBC124EDXV6T1G to NSBC143ZPDXV6T1G]

## NSBC124EDXV6T1G
designator Q?
Dual NPN Bias Resistor Transistors, R1=22 kOhm, R2=22 kOhm, NPN Transistor, 6-Pin SOT-563, Pb-Free, Tape and Reel; Manufacturer: On Semiconductor; PartNumber: NSBC124EDXV6T1G; hFE Min: 60; IC Continuous (A): 0.1; R1/R2 Typ: 1; V(BR)CEO Min (V): 50; DatasheetVersion: Rev. 0; PackageVersion: Rev. F, 04/2005; PackageReference: SOT-563-6-463A-01; PackageDescription: 6-Pin Small Outline Transistor, Body 1.6 x 1.2 mm, Pitch 0.5 mm; Supplier 1: Digi-Key; Supplier Part Number 1: NSBC124EDXV6T1GOSTR-ND; Supplier 2: Digi-Key; Supplier Part Number 2: NSBC124EDXV6T1GOSCT-ND; Supplier 3: Digi-Key; Supplier Part Number 3: NSBC124EDXV6T1GOSDKR-ND; Supplier 4: Mouser; Supplier Part Number 4: 863-NSBC124EDXV6T1G; Packing: Tape and Reel; Polarity: Dual NPN; RoHS: TRUE; Mounting Technology: Surface Mount; ComponentLink1Description: Manufacturer URL; ComponentLink1URL: http://www.onsemi.com/; ComponentLink2Description: Datasheet; ComponentLink2URL: http://www.onsemi.cn/pub_link/Collateral/DTC124ED-D.PDF; ComponentLink3Description: Package Specification; ComponentLink3URL: http://www.onsemi.cn/pub_link/Collateral/463A-01.PDF
footprint ONSC-SOT-563-6-463A-01_V (SOT23, 6-Leads, Body 1.6x1.2mm, Pitch 0.5mm)
part A pins: 3 C, 4 E, 5 B
part B pins: 1 E, 2 B, 6 C

## NSBC124EDXV6T5G
designator Q?
Dual NPN Bias Resistor Transistors, R1=22 kOhm, R2=22 kOhm, NPN Transistor, 6-Pin SOT-563, Pb-Free, Tape and Reel; Manufacturer: On Semiconductor; PartNumber: NSBC124EDXV6T5G; hFE Min: 60; IC Continuous (A): 0.1; R1/R2 Typ: 1; V(BR)CEO Min (V): 50; DatasheetVersion: Rev. 0; PackageVersion: Rev. F, 04/2005; PackageReference: SOT-563-6-463A-01; PackageDescription: 6-Pin Small Outline Transistor, Body 1.6 x 1.2 mm, Pitch 0.5 mm; Supplier 1: Digi-Key; Supplier Part Number 1: NSBC124EDXV6T5G-ND; Supplier 2: Mouser; Supplier Part Number 2: 863-NSBC124EDXV6T5G; Packing: Tape and Reel; Polarity: Dual NPN; RoHS: TRUE; Mounting Technology: Surface Mount; ComponentLink1Description: Manufacturer URL; ComponentLink1URL: http://www.onsemi.com/; ComponentLink2Description: Datasheet; ComponentLink2URL: http://www.onsemi.cn/pub_link/Collateral/DTC124ED-D.PDF; ComponentLink3Description: Package Specification; ComponentLink3URL: http://www.onsemi.cn/pub_link/Collateral/463A-01.PDF
footprint ONSC-SOT-563-6-463A-01_V (SOT23, 6-Leads, Body 1.6x1.2mm, Pitch 0.5mm)
part A pins: 3 C, 4 E, 5 B
part B pins: 1 E, 2 B, 6 C

## NSBC124EF3T5G
designator Q?
Digital Transistor (BRT), R1=22 kOhm, R2=22 kOhm, NPN Transistor, 3-Pin SOT-1123, Pb-Free, Tape and Reel; Manufacturer: On Semiconductor; PartNumber: NSBC124EF3T5G; hFE Min: 60; IC Continuous (A): 0.1; R1/R2 Typ: 1; V(BR)CEO Min (V): 50; DatasheetVersion: Rev. 2; PackageVersion: Rev. C, 11/2011; PackageReference: SOT-1123-3-524AA; PackageDescription: 3-Pin Small Outline Transistor, Body 0.8 x 0.6 mm, Pitch 0.375 mm; Supplier 1: Digi-Key; Supplier Part Number 1: NSBC124EF3T5G-ND; Supplier 2: Mouser; Supplier Part Number 2: 863-NSBC124EF3T5G; Packing: Tape and Reel; Polarity: NPN; RoHS: TRUE; Mounting Technology: Surface Mount; ComponentLink1Description: Manufacturer URL; ComponentLink1URL: http://www.onsemi.com/; ComponentLink2Description: Datasheet; ComponentLink2URL: http://www.onsemi.cn/pub_link/Collateral/DTC124E-D.PDF; ComponentLink3Description: Package Specification; ComponentLink3URL: http://www.onsemi.cn/pub_link/Collateral/524AA.PDF
footprint ONSC-SOT-1123-3-524AA_V (SOT223, 3-Leads, Body 0.8x0.6mm, Pitch 0.38mm)
pins: 1 B, 2 E, 3 C

## NSBC124EPDP6T5G
designator Q?
Complementary Bias Resistor Transistors, R1=22 kOhm, R2=22 kOhm, NPN and PNP Transistors, 6-Pin SOT-963, Pb-Free, Tape and Reel; Manufacturer: On Semiconductor; PartNumber: NSBC124EPDP6T5G; hFE Min: 60; IC Continuous (A): 0.1; R1/R2 Typ: 1; V(BR)CEO Min (V): 50; DatasheetVersion: Rev. 0; PackageVersion: Rev. E, 02/2010; PackageReference: SOT-963-6-527AD-01; PackageDescription: 6-Pin Small Outline Transistor, Body 1 x 0.8 mm, Pitch 0.35 mm; Supplier 1: Mouser; Supplier Part Number 1: 863-NSBC124EPDP6T5G; Packing: Tape and Reel; Polarity: Complementary; RoHS: TRUE; Mounting Technology: Surface Mount; ComponentLink1Description: Manufacturer URL; ComponentLink1URL: http://www.onsemi.com/; ComponentLink2Description: Datasheet; ComponentLink2URL: http://www.onsemi.cn/pub_link/Collateral/DTC124EP-D.PDF; ComponentLink3Description: Package Specification; ComponentLink3URL: http://www.onsemi.cn/pub_link/Collateral/527AD.PDF
footprint ONSC-SOT-963-6-527AD-01_V (SOT23, 6-Leads, Body 1x0.8mm, Pitch 0.35mm)
part A pins: 3 C, 4 E, 5 B
part B pins: 1 E, 2 B, 6 C

## NSBC124EPDXV6T1G
designator Q?
Complementary Bias Resistor Transistors, R1=22 kOhm, R2=22 kOhm, NPN and PNP Transistors, 6-Pin SOT-563, Pb-Free, Tape and Reel; Manufacturer: On Semiconductor; PartNumber: NSBC124EPDXV6T1G; hFE Min: 60; IC Continuous (A): 0.1; R1/R2 Typ: 1; V(BR)CEO Min (V): 50; DatasheetVersion: Rev. 0; PackageVersion: Rev. F, 04/2005; PackageReference: SOT-563-6-463A-01; PackageDescription: 6-Pin Small Outline Transistor, Body 1.6 x 1.2 mm, Pitch 0.5 mm; Supplier 1: Digi-Key; Supplier Part Number 1: NSBC124EPDXV6T1GOSTR-ND; Supplier 2: Digi-Key; Supplier Part Number 2: NSBC124EPDXV6T1GOSCT-ND; Supplier 3: Digi-Key; Supplier Part Number 3: NSBC124EPDXV6T1GOSDKR-ND; Supplier 4: Newark; Supplier Part Number 4: 10N9562; Supplier 5: Newark; Supplier Part Number 5: 42K2343; Supplier 6: Mouser; Supplier Part Number 6: 863-NSBC124EPDXV6T1G; Packing: Tape and Reel; Polarity: Complementary; RoHS: TRUE; Mounting Technology: Surface Mount; ComponentLink1Description: Manufacturer URL; ComponentLink1URL: http://www.onsemi.com/; ComponentLink2Description: Datasheet; ComponentLink2URL: http://www.onsemi.cn/pub_link/Collateral/DTC124EP-D.PDF; ComponentLink3Description: Package Specification; ComponentLink3URL: http://www.onsemi.cn/pub_link/Collateral/463A-01.PDF
footprint ONSC-SOT-563-6-463A-01_V (SOT23, 6-Leads, Body 1.6x1.2mm, Pitch 0.5mm)
part A pins: 3 C, 4 E, 5 B
part B pins: 1 E, 2 B, 6 C

## NSBC124EPDXV6T5G
designator Q?
Complementary Bias Resistor Transistors, R1=22 kOhm, R2=22 kOhm, NPN and PNP Transistors, 6-Pin SOT-563, Pb-Free, Tape and Reel; Manufacturer: On Semiconductor; PartNumber: NSBC124EPDXV6T5G; hFE Min: 60; IC Continuous (A): 0.1; R1/R2 Typ: 1; V(BR)CEO Min (V): 50; DatasheetVersion: Rev. 0; PackageVersion: Rev. F, 04/2005; PackageReference: SOT-563-6-463A-01; PackageDescription: 6-Pin Small Outline Transistor, Body 1.6 x 1.2 mm, Pitch 0.5 mm; Supplier 1: Digi-Key; Supplier Part Number 1: NSBC124EPDXV6T5G-ND; Supplier 2: Mouser; Supplier Part Number 2: 863-NSBC124EPDXV6T5G; Packing: Tape and Reel; Polarity: Complementary; RoHS: TRUE; Mounting Technology: Surface Mount; ComponentLink1Description: Manufacturer URL; ComponentLink1URL: http://www.onsemi.com/; ComponentLink2Description: Datasheet; ComponentLink2URL: http://www.onsemi.cn/pub_link/Collateral/DTC124EP-D.PDF; ComponentLink3Description: Package Specification; ComponentLink3URL: http://www.onsemi.cn/pub_link/Collateral/463A-01.PDF
footprint ONSC-SOT-563-6-463A-01_V (SOT23, 6-Leads, Body 1.6x1.2mm, Pitch 0.5mm)
part A pins: 3 C, 4 E, 5 B
part B pins: 1 E, 2 B, 6 C

## NSBC124XDXV6T1G
designator Q?
Dual NPN Bias Resistor Transistors, R1=22 kOhm, R2=47 kOhm, NPN Transistor, 6-Pin SOT-563, Pb-Free, Tape and Reel; Manufacturer: On Semiconductor; PartNumber: NSBC124XDXV6T1G; hFE Min: 80; IC Continuous (A): 0.1; R1/R2 Typ: 0.47; V(BR)CEO Min (V): 50; DatasheetVersion: Rev. 0; PackageVersion: Rev. F, 04/2005; PackageReference: SOT-563-6-463A-01; PackageDescription: 6-Pin Small Outline Transistor, Body 1.6 x 1.2 mm, Pitch 0.5 mm; Supplier 1: Mouser; Supplier Part Number 1: 863-NSBC124XDXV6T1G; Packing: Tape and Reel; Polarity: Dual NPN; RoHS: TRUE; Mounting Technology: Surface Mount; ComponentLink1Description: Manufacturer URL; ComponentLink1URL: http://www.onsemi.com/; ComponentLink2Description: Datasheet; ComponentLink2URL: http://www.onsemi.cn/pub_link/Collateral/DTC124XD-D.PDF; ComponentLink3Description: Package Specification; ComponentLink3URL: http://www.onsemi.cn/pub_link/Collateral/463A-01.PDF
footprint ONSC-SOT-563-6-463A-01_V (SOT23, 6-Leads, Body 1.6x1.2mm, Pitch 0.5mm)
part A pins: 3 C, 4 E, 5 B
part B pins: 1 E, 2 B, 6 C

## NSBC124XPDXV6T1G
designator Q?
Complementary Bias Resistor Transistors, R1=22 kOhm, R2=22 kOhm, NPN and PNP Transistors, 6-Pin SOT-563, Pb-Free, Tape and Reel; Manufacturer: On Semiconductor; PartNumber: NSBC124XPDXV6T1G; hFE Min: 80; IC Continuous (A): 0.1; R1/R2 Typ: 0.47; V(BR)CEO Min (V): 50; DatasheetVersion: Rev. 0; PackageVersion: Rev. F, 04/2005; PackageReference: SOT-563-6-463A-01; PackageDescription: 6-Pin Small Outline Transistor, Body 1.6 x 1.2 mm, Pitch 0.5 mm; Supplier 1: Digi-Key; Supplier Part Number 1: NSBC124XPDXV6T1GOS-ND; Supplier 2: Mouser; Supplier Part Number 2: 863-NSBC124XPDXV6T1G; Packing: Tape and Reel; Polarity: Complementary; RoHS: TRUE; Mounting Technology: Surface Mount; ComponentLink1Description: Manufacturer URL; ComponentLink1URL: http://www.onsemi.com/; ComponentLink2Description: Datasheet; ComponentLink2URL: http://www.onsemi.cn/pub_link/Collateral/DTC124XP-D.PDF; ComponentLink3Description: Package Specification; ComponentLink3URL: http://www.onsemi.cn/pub_link/Collateral/463A-01.PDF
footprint ONSC-SOT-563-6-463A-01_V (SOT23, 6-Leads, Body 1.6x1.2mm, Pitch 0.5mm)
part A pins: 3 C, 4 E, 5 B
part B pins: 1 E, 2 B, 6 C

## NSBC143EDP6T5G
designator Q?
Dual NPN Bias Resistor Transistors, R1=4.7 kOhm, R2=4.7 kOhm, NPN Transistor, 6-Pin SOT-963, Pb-Free, Tape and Reel; Manufacturer: On Semiconductor; PartNumber: NSBC143EDP6T5G; hFE Min: 15; IC Continuous (A): 0.1; R1/R2 Typ: 1; V(BR)CEO Min (V): 50; DatasheetVersion: Rev. 0; PackageVersion: Rev. E, 02/2010; PackageReference: SOT-963-6-527AD-01; PackageDescription: 6-Pin Small Outline Transistor, Body 1 x 0.8 mm, Pitch 0.35 mm; Supplier 1: Digi-Key; Supplier Part Number 1: NSBC143EDP6T5G-ND; Supplier 2: Mouser; Supplier Part Number 2: 863-NSBC143EDP6T5G; Packing: Tape and Reel; Polarity: Dual NPN; RoHS: TRUE; Mounting Technology: Surface Mount; ComponentLink1Description: Manufacturer URL; ComponentLink1URL: http://www.onsemi.com/; ComponentLink2Description: Datasheet; ComponentLink2URL: http://www.onsemi.cn/pub_link/Collateral/DTC143ED-D.PDF; ComponentLink3Description: Package Specification; ComponentLink3URL: http://www.onsemi.cn/pub_link/Collateral/527AD.PDF
footprint ONSC-SOT-963-6-527AD-01_V (SOT23, 6-Leads, Body 1x0.8mm, Pitch 0.35mm)
part A pins: 3 C, 4 E, 5 B
part B pins: 1 E, 2 B, 6 C

## NSBC143EDXV6T1G
designator Q?
Dual NPN Bias Resistor Transistors, R1=4.7 kOhm, R2=4.7 kOhm, NPN Transistor, 6-Pin SOT-563, Pb-Free, Tape and Reel; Manufacturer: On Semiconductor; PartNumber: NSBC143EDXV6T1G; hFE Min: 15; IC Continuous (A): 0.1; R1/R2 Typ: 1; V(BR)CEO Min (V): 50; DatasheetVersion: Rev. 0; PackageVersion: Rev. F, 04/2005; PackageReference: SOT-563-6-463A-01; PackageDescription: 6-Pin Small Outline Transistor, Body 1.6 x 1.2 mm, Pitch 0.5 mm; Supplier 1: Mouser; Supplier Part Number 1: 863-NSBC143EDXV6T1G; Packing: Tape and Reel; Polarity: Dual NPN; RoHS: TRUE; Mounting Technology: Surface Mount; ComponentLink1Description: Manufacturer URL; ComponentLink1URL: http://www.onsemi.com/; ComponentLink2Description: Datasheet; ComponentLink2URL: http://www.onsemi.cn/pub_link/Collateral/DTC143ED-D.PDF; ComponentLink3Description: Package Specification; ComponentLink3URL: http://www.onsemi.cn/pub_link/Collateral/463A-01.PDF
footprint ONSC-SOT-563-6-463A-01_V (SOT23, 6-Leads, Body 1.6x1.2mm, Pitch 0.5mm)
part A pins: 3 C, 4 E, 5 B
part B pins: 1 E, 2 B, 6 C

## NSBC143EF3T5G
designator Q?
Digital Transistor (BRT), R1=4.7 kOhm, R2=4.7 kOhm, NPN Transistor, 3-Pin SOT-1123, Pb-Free, Tape and Reel; Manufacturer: On Semiconductor; PartNumber: NSBC143EF3T5G; hFE Min: 15; IC Continuous (A): 0.1; R1/R2 Typ: 1; V(BR)CEO Min (V): 50; DatasheetVersion: Rev. 2; PackageVersion: Rev. C, 11/2011; PackageReference: SOT-1123-3-524AA; PackageDescription: 3-Pin Small Outline Transistor, Body 0.8 x 0.6 mm, Pitch 0.375 mm; Supplier 1: Digi-Key; Supplier Part Number 1: NSBC143EF3T5G-ND; Supplier 2: Mouser; Supplier Part Number 2: 863-NSBC143EF3T5G; Packing: Tape and Reel; Polarity: NPN; RoHS: TRUE; Mounting Technology: Surface Mount; ComponentLink1Description: Manufacturer URL; ComponentLink1URL: http://www.onsemi.com/; ComponentLink2Description: Datasheet; ComponentLink2URL: http://www.onsemi.cn/pub_link/Collateral/DTC143E-D.PDF; ComponentLink3Description: Package Specification; ComponentLink3URL: http://www.onsemi.cn/pub_link/Collateral/524AA.PDF
footprint ONSC-SOT-1123-3-524AA_V (SOT223, 3-Leads, Body 0.8x0.6mm, Pitch 0.38mm)
pins: 1 B, 2 E, 3 C

## NSBC143EPDP6T5G
designator Q?
Complementary Bias Resistor Transistors, R1=4.7 kOhm, R2=4.7 kOhm, NPN and PNP Transistors, 6-Pin SOT-963, Pb-Free, Tape and Reel; Manufacturer: On Semiconductor; PartNumber: NSBC143EPDP6T5G; hFE Min: 15; IC Continuous (A): 0.1; R1/R2 Typ: 1; V(BR)CEO Min (V): 50; DatasheetVersion: Rev. 0; PackageVersion: Rev. E, 02/2010; PackageReference: SOT-963-6-527AD-01; PackageDescription: 6-Pin Small Outline Transistor, Body 1 x 0.8 mm, Pitch 0.35 mm; Supplier 1: Mouser; Supplier Part Number 1: 863-NSBC143EPDP6T5G; Packing: Tape and Reel; Polarity: Complementary; RoHS: TRUE; Mounting Technology: Surface Mount; ComponentLink1Description: Manufacturer URL; ComponentLink1URL: http://www.onsemi.com/; ComponentLink2Description: Datasheet; ComponentLink2URL: http://www.onsemi.cn/pub_link/Collateral/DTC143EP-D.PDF; ComponentLink3Description: Package Specification; ComponentLink3URL: http://www.onsemi.cn/pub_link/Collateral/527AD.PDF
footprint ONSC-SOT-963-6-527AD-01_V (SOT23, 6-Leads, Body 1x0.8mm, Pitch 0.35mm)
part A pins: 3 C, 4 E, 5 B
part B pins: 1 E, 2 B, 6 C

## NSBC143EPDXV6T1G
designator Q?
Complementary Bias Resistor Transistors, R1=4.7 kOhm, R2=4.7 kOhm, NPN and PNP Transistors, 6-Pin SOT-563, Pb-Free, Tape and Reel; Manufacturer: On Semiconductor; PartNumber: NSBC143EPDXV6T1G; hFE Min: 15; IC Continuous (A): 0.1; R1/R2 Typ: 1; V(BR)CEO Min (V): 50; DatasheetVersion: Rev. 0; PackageVersion: Rev. F, 04/2005; PackageReference: SOT-563-6-463A-01; PackageDescription: 6-Pin Small Outline Transistor, Body 1.6 x 1.2 mm, Pitch 0.5 mm; Supplier 1: Mouser; Supplier Part Number 1: 863-NSBC143EPDXV6T1G; Packing: Tape and Reel; Polarity: Complementary; RoHS: TRUE; Mounting Technology: Surface Mount; ComponentLink1Description: Manufacturer URL; ComponentLink1URL: http://www.onsemi.com/; ComponentLink2Description: Datasheet; ComponentLink2URL: http://www.onsemi.cn/pub_link/Collateral/DTC143EP-D.PDF; ComponentLink3Description: Package Specification; ComponentLink3URL: http://www.onsemi.cn/pub_link/Collateral/463A-01.PDF
footprint ONSC-SOT-563-6-463A-01_V (SOT23, 6-Leads, Body 1.6x1.2mm, Pitch 0.5mm)
part A pins: 3 C, 4 E, 5 B
part B pins: 1 E, 2 B, 6 C

## NSBC143TDXV6T1G
designator Q?
Dual NPN Bias Resistor Transistors, R1=4.7 kOhm, R2=infinity kOhm, NPN Transistor, 6-Pin SOT-563, Pb-Free, Tape and Reel; Manufacturer: On Semiconductor; PartNumber: NSBC143TDXV6T1G; hFE Min: 160; IC Continuous (A): 0.1; V(BR)CEO Min (V): 50; DatasheetVersion: Rev. 0; PackageVersion: Rev. F, 04/2005; PackageReference: SOT-563-6-463A-01; PackageDescription: 6-Pin Small Outline Transistor, Body 1.6 x 1.2 mm, Pitch 0.5 mm; Supplier 1: Mouser; Supplier Part Number 1: 863-NSBC143TDXV6T1G; Packing: Tape and Reel; Polarity: Dual NPN; RoHS: TRUE; Mounting Technology: Surface Mount; ComponentLink1Description: Manufacturer URL; ComponentLink1URL: http://www.onsemi.com/; ComponentLink2Description: Datasheet; ComponentLink2URL: http://www.onsemi.cn/pub_link/Collateral/DTC143TD-D.PDF; ComponentLink3Description: Package Specification; ComponentLink3URL: http://www.onsemi.cn/pub_link/Collateral/463A-01.PDF
footprint ONSC-SOT-563-6-463A-01_V (SOT23, 6-Leads, Body 1.6x1.2mm, Pitch 0.5mm)
part A pins: 3 C, 4 E, 5 B
part B pins: 1 E, 2 B, 6 C

## NSBC143TDXV6T5G
designator Q?
Dual NPN Bias Resistor Transistors, R1=4.7 kOhm, R2=infinity kOhm, NPN Transistor, 6-Pin SOT-563, Pb-Free, Tape and Reel; Manufacturer: On Semiconductor; PartNumber: NSBC143TDXV6T5G; hFE Min: 160; IC Continuous (A): 0.1; V(BR)CEO Min (V): 50; DatasheetVersion: Rev. 0; PackageVersion: Rev. F, 04/2005; PackageReference: SOT-563-6-463A-01; PackageDescription: 6-Pin Small Outline Transistor, Body 1.6 x 1.2 mm, Pitch 0.5 mm; Supplier 1: Mouser; Supplier Part Number 1: 863-NSBC143TDXV6T5G; Packing: Tape and Reel; Polarity: Dual NPN; RoHS: TRUE; Mounting Technology: Surface Mount; ComponentLink1Description: Manufacturer URL; ComponentLink1URL: http://www.onsemi.com/; ComponentLink2Description: Datasheet; ComponentLink2URL: http://www.onsemi.cn/pub_link/Collateral/DTC143TD-D.PDF; ComponentLink3Description: Package Specification; ComponentLink3URL: http://www.onsemi.cn/pub_link/Collateral/463A-01.PDF
footprint ONSC-SOT-563-6-463A-01_V (SOT23, 6-Leads, Body 1.6x1.2mm, Pitch 0.5mm)
part A pins: 3 C, 4 E, 5 B
part B pins: 1 E, 2 B, 6 C